# Altium footprint library Components.PcbLib: 154 footprints (part 10 of 10)
Each footprint in its own frame and in the unit in brackets; x right, y up, seen from the top. Pads: shape width x height; smd on the part's side, far side on the other; paste and mask are expansions set on the pad; w line width, h text height; cw(c..) or ccw(c..) is an arc to the next point about the centre after c.
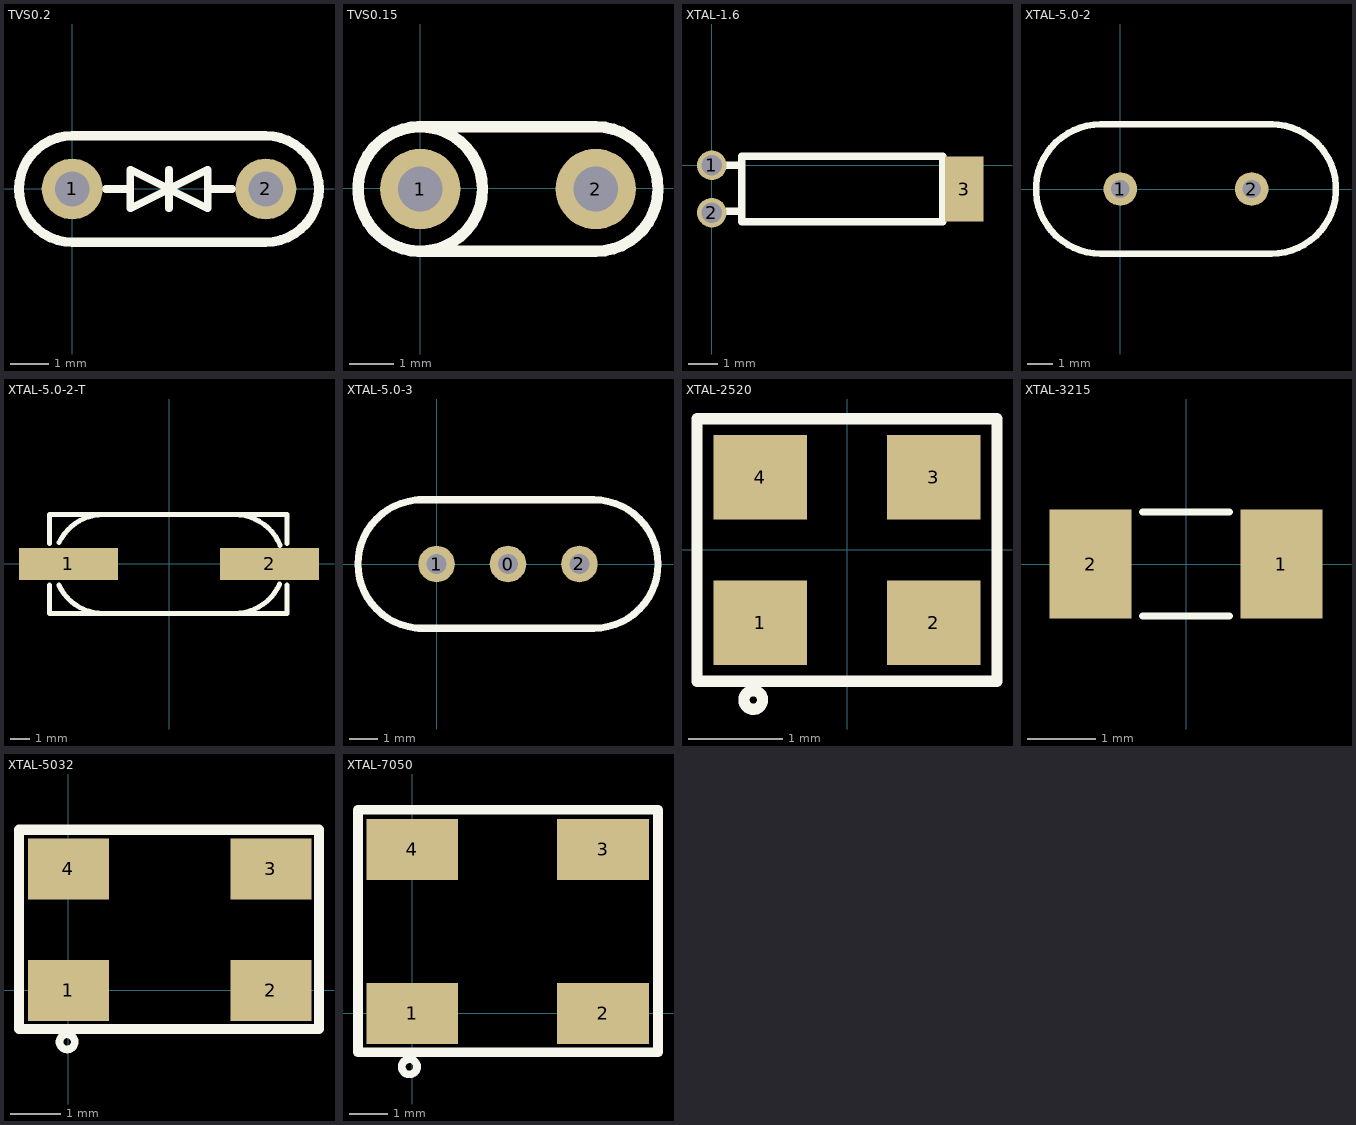
[diagram p9: the footprints below, top view; thin cyan lines are the x and y axes]

## TVS0.2 [mm]
pads (2):
  round 1.6 hole 0.914: 1(-0.001,-0.011) 2(5.079,-0.011)
Top Overlay:
  lines w0.203: 0.888,-0.011 1.523,-0.011 ; 2.539,-0.519 2.539,0.497 ; 3.555,-0.011 4.19,-0.011 ; 1.523,-0.519 3.555,0.497 3.555,-0.519 1.523,0.497 1.523,-0.519
  lines w0.254: -0.001,-1.408 cw(c-0.001,-0.011) -0.001,1.386 5.079,1.386 cw(c5.079,-0.011) 5.079,-1.408 -0.001,-1.408

## TVS0.15 [mm]
pads (2):
  round 1.8 hole 1: 1(0,-0.013) 2(3.937,-0.013)
Top Overlay:
  circle w0.254: c0,-0.013 r1.395
  lines w0.254: 0,-1.41 cw(c0,-0.013) 0,1.384 3.937,1.384 cw(c3.937,-0.013) 3.937,-1.41 0,-1.41

## XTAL-1.6 [mm] "small 32.768kHz"
pads (3):
  round 1 hole 0.7: 1(0,0) 2(0,-1.6)
  rect 1.3x2.2 smd: 3(8.544,-0.8)
Top Overlay:
  lines w0.254: 0.508,-1.554 1.016,-1.554 ; 0.508,0 1.016,0 ; 1.016,-1.9 7.804,-1.9 7.804,0.3 1.016,0.3 1.016,-1.9

## XTAL-5.0-2 [mm] "two hole xtal"
pads (2):
  round 1.3 hole 0.711: 1(0,0) 2(5.08,0)
Top Overlay:
  lines w0.254: -0.762,2.5 ccw(c-0.762,0) -0.762,-2.5 5.842,-2.5 ccw(c5.842,0) 5.842,2.5 ; -0.762,2.5 5.882,2.5

## XTAL-5.0-2-T [mm] "two xtal"
pads (2):
  rect 5x1.6 smd: 1(-5.08,0) 2(5.08,0)
Top Overlay:
  lines w0.254: -6.04,-1.06 -6.04,-2.5 5.96,-2.5 5.96,-1.06 ; -6.04,1.04 -6.04,2.5 5.96,2.5 5.96,1.04 ; -5.569,-1.063 ccw(c-3.314,-0.012) -3.314,-2.5 3.302,-2.5 ccw(c3.302,0) 5.586,-1.017 ; -5.559,1.076 cw(c-3.302,0) -3.302,2.5 3.302,2.5 ; 3.302,2.5 cw(c3.302,0) 5.616,0.947

## XTAL-5.0-3 [mm]
pads (3):
  round 1.3 hole 0.7: 0(2.54,0) 1(0,0) 2(5.08,0)
Top Overlay:
  lines w0.244: 5.588,2.286 cw(c5.588,0) 7.874,0
  lines w0.254: -0.635,-2.286 5.588,-2.286 ; -0.635,2.286 5.588,2.286 ; 7.874,0 cw(c5.588,0) 5.588,-2.286 ; -0.508,-2.286 cw(c-0.508,0) -2.794,0 cw(c-0.508,0) -0.508,2.286 ; -0.508,-2.286 cw(c-0.508,0) -0.508,2.286 ; -0.508,-2.286 5.588,-2.286 ; -0.508,2.286 5.588,2.286 ; 5.588,-2.286 ccw(c5.588,0) 5.588,2.286

## XTAL-2520 [mm] "SMD 4 pin 25*20"
pads (4):
  rect 1x0.9 smd: 1(-0.925,-0.775) 2(0.925,-0.775) 3(0.925,0.775) 4(-0.925,0.775)
Top Overlay:
  circle w0.12: c-1,-1.6 r0.1
  lines w0.12: -1.6,-1.4 1.6,-1.4 1.6,1.4 -1.6,1.4 -1.6,-1.4

## XTAL-3215 [mm] "SMD 2 pin 32*15"
pads (2):
  rect 1.2x1.6 smd: 1(1.4,0) 2(-1.4,0)
Top Overlay:
  lines w0.102: -0.635,-0.762 0.635,-0.762 ; -0.635,0.762 0.635,0.762

## XTAL-5032 [mm] "SMD 4 pin 50*32"
pads (4):
  rect 1.6x1.2 smd: 1(0,0) 2(4,0) 3(4,2.4) 4(0,2.4)
Top Overlay:
  circle w0.15: c-0.023,-1.016 r0.15
  lines w0.2: -0.973,-0.762 4.953,-0.762 4.953,3.175 -0.973,3.175 -0.973,-0.762

## XTAL-7050 [mm]
pads (4):
  rect 2.4x1.6 smd: 1(0,0) 2(5,0) 3(5,4.3) 4(0,4.3)
Top Overlay:
  circle w0.2: c-0.073,-1.397 r0.2
  lines w0.254: -1.42,-1.016 -1.42,5.334 ; -1.4,-1.016 6.44,-1.016 6.44,5.334 -1.4,5.334